# Altium schematic symbol library MOS_Fairchild_FDS6699S_PCHN.SchLib: 1 symbol
Pins are listed as number, name and electrical type; pins without a type are passive.

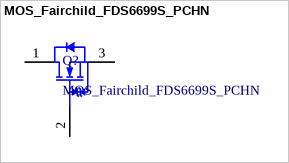
[diagram p0: symbol MOS_Fairchild_FDS6699S_PCHN]

## MOS_Fairchild_FDS6699S_PCHN
designator Q?
MOSFET 30V N-Ch PowerTrench SyncFET
footprint MOS_Fairchild_FDS6699S_PCHN
pins: 1 D, 2 G, 3 S